# Altium schematic symbol library MC33269-ADJ.Schlib: 1 symbol
Pins are listed as number, name and electrical type; pins without a type are passive.

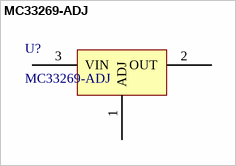
[diagram p0: symbol MC33269-ADJ]

## MC33269-ADJ
designator U?
pins: 1 ADJ, 2 OUT, 3 VIN